# EAGLE library part 22-05-3091 (library con-molex-kk)
HEADER
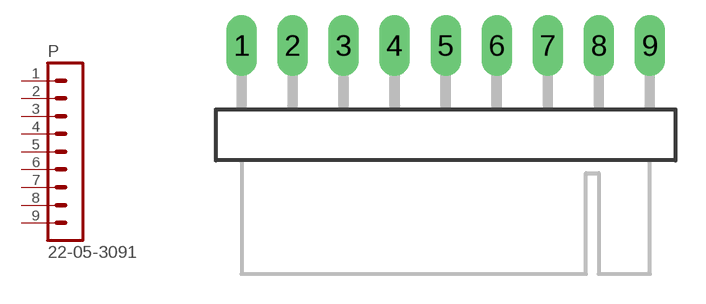
[diagram p177: symbol with the pads of 22-05-3091; footprint 22-05-3091]

Designator prefix P

## 22-05-3091  [22-05-3091]
1  1  pas
2  2  pas
3  3  pas
4  4  pas
5  5  pas
6  6  pas
7  7  pas
8  8  pas
9  9  pas

## Footprint 22-05-3091 (pad centres in mm)
HEADER
drill 1.016 long: 1 -10.16,0; 2 -7.62,0; 3 -5.08,0; 4 -2.54,0; 5 0,0; 6 2.54,0; 7 5.08,0; 8 7.62,0; 9 10.16,0